# EAGLE library part TEXAS_INSTRUMENTS-BOOST_CONTROLLER-LM5122ZPWPR (library Module_Regulators)
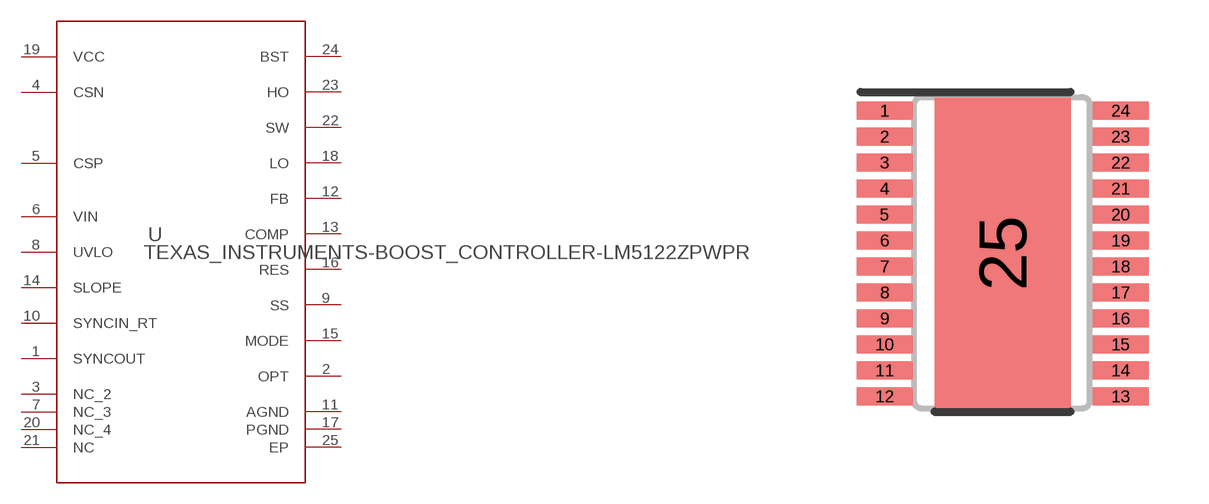
[diagram p33: symbol with the pads of TEXAS_INSTRUMENTS-BOOST_CONTROLLER-LM5122ZPWPR; footprint TEXAS_INSTRUMENTS-BOOST_CONTROLLER-LM5122ZPWPR]

Designator prefix U

## TEXAS_INSTRUMENTS-BOOST_CONTROLLER-LM5122ZPWPR (MANUFACTURER: Texas Instruments; PARTNUMBER: LM5122ZPWPR; REFDES: RefDes; TYPE: TYPE; VALUE: Value)  [TEXAS_INSTRUMENTS-BOOST_CONTROLLER-LM5122ZPWPR]
1  SYNCOUT  out
2  OPT  in
3  NC_2  pas
4  CSN  in
5  CSP  in
6  VIN  pwr
7  NC_3  pas
8  UVLO  in
9  SS  in
10  SYNCIN_RT  in
11  AGND  pwr
12  FB  in
13  COMP  out
14  SLOPE  in
15  MODE  in
16  RES  out
17  PGND  pwr
18  LO  out
19  VCC  pwr
20  NC_4  pas
21  NC  pas
22  SW  pwr
23  HO  out
24  BST  pwr
25  EP  pwr

## Footprint TEXAS_INSTRUMENTS-BOOST_CONTROLLER-LM5122ZPWPR (pad centres in mm)
smd 1.4 x 0.45: 1 -2.95,3.575; 2 -2.95,2.925; 3 -2.95,2.275; 4 -2.95,1.625; 5 -2.95,0.975; 6 -2.95,0.325; 7 -2.95,-0.325; 8 -2.95,-0.975; 9 -2.95,-1.625; 10 -2.95,-2.275; 11 -2.95,-2.925; 12 -2.95,-3.575; 13 2.95,-3.575; 14 2.95,-2.925; 15 2.95,-2.275; 16 2.95,-1.625; 17 2.95,-0.975; 18 2.95,-0.325; 19 2.95,0.325; 20 2.95,0.975; 21 2.95,1.625; 22 2.95,2.275; 23 2.95,2.925; 24 2.95,3.575
smd 3.4 x 7.8: 25 0,0